# Altium footprint library Phone.PcbLib: 21 footprints (part 1 of 2)
Each footprint in its own frame and in the unit in brackets; x right, y up, seen from the top. Pads: shape width x height; smd on the part's side, far side on the other; paste and mask are expansions set on the pad; w line width, h text height; cw(c..) or ccw(c..) is an arc to the next point about the centre after c.
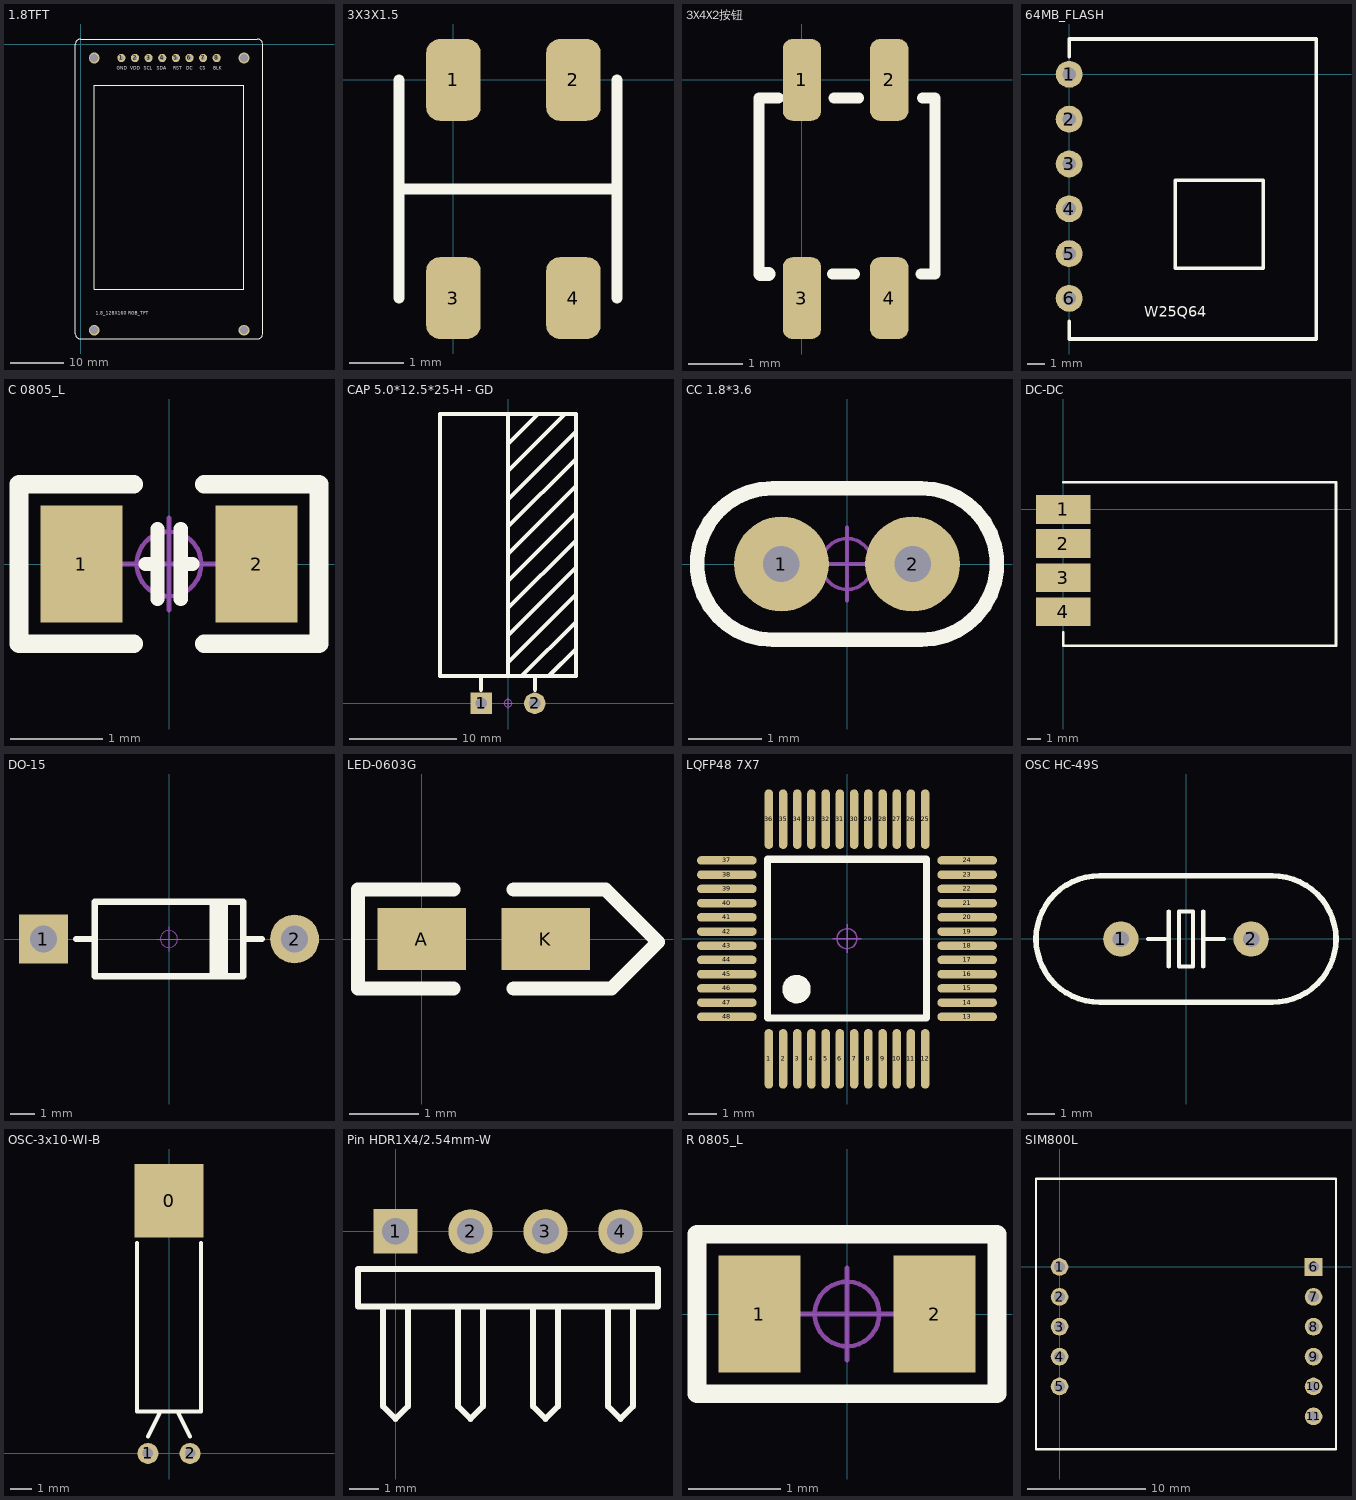
[diagram p0: the footprints below, top view; thin cyan lines are the x and y axes]

## 1.8TFT [mil]
height 43.31
pads (8):
  round 60 hole 30: 1(300,-100) 2(400,-100) 3(500,-100) 4(600,-100) 5(700,-100) 6(800,-100) 7(900,-100) 8(1000,-100)
via 1200,-2100 diameter 78.74 hole 59.06
via 100,-2100 diameter 78.74 hole 59.06
via 1200,-100 diameter 78.74 hole 59.06
via 100,-100 diameter 78.74 hole 59.06
Top Overlay:
  lines w7.87: -39.37,-2125.98 ccw(c0,-2125.98) 0,-2165.35 1299.21,-2165.35 ccw(c1299.21,-2125.98) 1338.58,-2125.98 1338.58,0 ccw(c1299.21,0) 1299.21,39.37 0,39.37 ccw(c0,0) -39.37,0 -39.37,-2125.98 ; 100,-1800 100,-300 1200,-300 1200,-1800 100,-1800
  text "GND" at 265.91,-186.85 h23.62
  text "VDD" at 364.02,-186.85 h23.62
  text "SCL" at 462.76,-186.85 h23.62
  text "SDA" at 561.18,-186.85 h23.62
  text "RST" at 679.29,-186.85 h23.62
  text "DC" at 777.72,-186.85 h23.62
  text "CS" at 876.14,-186.85 h23.62
  text "BLK" at 974.57,-186.85 h23.62
  text "1.8_128X160 RGB_TFT" at 110,-1986.06 h23.62

## 3X3X1.5 [mm]
height 1.1
pads (4):
  rrect50% 1x1.5 smd: 1(0,0) 2(2.2,0) 3(0,-4) 4(2.2,-4)
Top Overlay:
  lines w0.2: -1,-4 -1,0 ; -1,-2 3,-2 ; 3,-4 3,0

## 3X4X2按钮 [mm]
height 1.1
pads (4):
  rrect50% 0.7x1.5 smd: 1(0,0) 2(1.6,0) 3(0,-4) 4(1.6,-4)
Top Overlay:
  lines w0.2: -0.711,-3.556 -0.787,-3.556 -0.787,-0.33 -0.432,-0.33 ; 0.559,-3.556 0.965,-3.556 ; 0.584,-0.33 1.041,-0.33 ; 2.184,-3.556 2.438,-3.556 2.438,-0.33 2.21,-0.33
  lines w0.254: -0.762,-3.556 -0.61,-3.556

## 64MB_FLASH [mil]
height 43.31
pads (6):
  round 60 hole 30: 1(0,0) 2(0,-100) 3(0,-200) 4(0,-300) 5(0,-400) 6(0,-500)
Top Overlay:
  lines w7.87: 0,-551.18 0,-590.55 551.18,-590.55 551.18,-551.18 551.18,78.74 0,78.74 0,39.37 ; 236.22,-433.07 433.07,-433.07 433.07,-236.22 236.22,-236.22 236.22,-433.07
  text "W25Q64" at 167.48,-541.18 h23.62

## C 0805_L [mil] "无极性贴片电容"
height 19.68
pads (2):
  rect 35x50 smd: 1(-37.4,0) 2(37.4,0)
Top Overlay:
  lines w6: -10,0 -5,0 ; -5,-15 -5,15 ; 5,-15 5,15 ; 5,0 10,0
  lines w8: -15,-34 -64,-34 -64,34 -15,34 ; 15,-34 64,-34 64,34 15,34
Mechanical 15:
  circle w1.97: c0,0 r13.78
  circle w1.97: c0,0 r13.78
  lines w1.97: -19.68,0 19.68,0 -19.68,0 ; 0,-19.68 0,19.68 0,-19.68
3D body "C 0805.STEP": height 20.08, standoff -0.39, extent -39.37,-24.02 39.37,24.02

## CAP 5.0*12.5*25-H - GD [mm] "脚距5mm直径12.5mm高度25mm"
pads (2):
  rect 2x2 hole 1.1: 1(-2.5,0)
  round 2 hole 1.1: 2(2.5,0)
Top Overlay:
  lines w0.381: -2.54,1.27 -2.54,2.54 ; 0,2.54 0,27.051 ; 0,3.81 6.35,10.16 ; 0,6.35 6.35,12.7 ; 0,8.89 6.35,15.24 ; 0,11.43 6.35,17.78 ; 0,13.97 6.35,20.32 ; 0,16.51 6.35,22.86 ; 0,19.05 6.35,25.4 ; 0,21.717 5.334,27.051 ; 0,24.257 2.794,27.051 ; 1.27,2.54 6.35,7.62 ; 2.54,1.27 2.54,2.54 ; 3.81,2.54 6.35,5.08 ; -6.35,2.54 -6.35,27.051 6.35,27.051 6.35,2.54 -6.35,2.54
Mechanical 15:
  circle w0.05: c0,0 r0.35
  lines w0.05: -0.5,0 0.5,0 ; 0,-0.5 0,0.5
3D body "CAP 5X12.5X25-H.STEP": height 12.52, standoff -3.48, extent -6.236,-0.3 6.26,26.91

## CC 1.8*3.6 [mm] "脚距1.8mm直径3.6mm"
height 1.1
pads (2):
  round 1.3 hole 0.5: 1(-0.9,0) 2(0.9,0)
Top Overlay:
  lines w0.2: -1.016,-1.041 cw(c-1.016,0) -1.016,1.041 1.016,1.041 cw(c1.016,0) 1.016,-1.041 -1.016,-1.041
Mechanical 15:
  circle w0.05: c0,0 r0.35
  lines w0.05: -0.5,0 0.5,0 ; 0,-0.5 0,0.5
3D body "CC 1.8X3.6.STEP": height 3.6, standoff -3.5, extent -1.8,-0.798 1.8,0.796

## DC-DC [mm]
height 1.1
pads (4):
  rect 4x2.1 smd: 1(0,0) 2(0,-2.5) 3(0,-5) 4(0,-7.5)
Top Overlay:
  lines w0.2: 0,-9 0,-10 20,-10 20,2 0,2

## DO-15 [mm] "3.3*10.3mm(直径，脚距）"
height 1.1
pads (2):
  rect 2x2 hole 1.1: 1(-5.15,0)
  round 2 hole 1.1: 2(5.15,0)
Top Overlay:
  lines w0.254: -3.81,0 -3.048,0 ; 1.778,-1.524 1.778,1.524 ; 2.032,-1.524 2.032,1.524 ; 2.286,-1.524 2.286,1.524 ; 3.048,0 3.81,0 ; -3.048,-1.524 3.048,-1.524 3.048,1.524 -3.048,1.524 -3.048,-1.524
Mechanical 15:
  circle w0.05: c0,0 r0.35
  lines w0.05: -0.5,0 0.5,0 ; 0,-0.5 0,0.5
3D body "DO-15.STEP": height 3.35, standoff -3.45, extent -5.55,-1.639 5.55,1.639

## LED-0603G [mil]
height 43.31
pads (2):
  rect 50x35 smd: A(0,0.26) K(70,0.26)
Top Overlay:
  lines w8: 18,-27.74 -36,-27.74 -36,-25.74 -36,28.26 -35,28.26 18,28.26 ; 52,-27.74 107.26,-27.74 133.5,-1.5 103.75,28.26 52,28.26
3D body "17.STEP": height 23.82, standoff -0.04, extent 3.5,-15 66.5,16.58

## LQFP48 7X7 [mm]
height 1.1
pads (48):
  oval 0.3x2.1 smd: 1(-2.75,-4.227) 2(-2.25,-4.227) 3(-1.75,-4.227) 4(-1.25,-4.227) 5(-0.75,-4.227) 6(-0.25,-4.227) 7(0.25,-4.227) 8(0.75,-4.227) 9(1.25,-4.227) 10(1.75,-4.227) 11(2.25,-4.227) 12(2.75,-4.227) 25(2.75,4.202) 26(2.25,4.202) 27(1.75,4.202) 28(1.25,4.202) 29(0.75,4.202) 30(0.25,4.202) 31(-0.25,4.202) 32(-0.75,4.202) 33(-1.25,4.202) 34(-1.75,4.202) 35(-2.25,4.202) 36(-2.75,4.202)
  oval 2.1x0.3 smd: 13(4.227,-2.75) 14(4.227,-2.25) 15(4.227,-1.75) 16(4.227,-1.25) 17(4.227,-0.75) 18(4.227,-0.25) 19(4.227,0.25) 20(4.227,0.75) 21(4.227,1.25) 22(4.227,1.75) 23(4.227,2.25) 24(4.227,2.75) 37(-4.227,2.75) 38(-4.227,2.25) 39(-4.227,1.75) 40(-4.227,1.25) 41(-4.227,0.75) 42(-4.227,0.25) 43(-4.227,-0.25) 44(-4.227,-0.75) 45(-4.227,-1.25) 46(-4.227,-1.75) 47(-4.227,-2.25) 48(-4.227,-2.75)
Top Overlay:
  circle w0.5: c-1.778,-1.778 r0.25
  lines w0.254: -2.794,-2.794 -2.794,2.794 2.794,2.794 2.794,-2.794 -2.794,-2.794
Mechanical 15:
  circle w0.05: c0,0 r0.35
  lines w0.05: -0.5,0 0.5,0 ; 0,-0.5 0,0.5
3D body "LQFP48 7X7.STEP": height 1.45, standoff 0, extent -4.51,-4.503 4.496,4.503

## OSC HC-49S [mm]
height 1.1
pads (2):
  round 1.3 hole 0.6: 1(-2.4,0) 2(2.4,0)
Top Overlay:
  lines w0.152: -1.397,0 -0.635,0 ; -0.635,-1.016 -0.635,1.016 ; 0.635,-1.016 0.635,1.016 ; 0.635,0 1.397,0 ; -0.254,-1.016 0.254,-1.016 0.254,1.016 -0.254,1.016 -0.254,-1.016
  lines w0.203: -3.175,2.325 ccw(c-3.2,0) -3.173,-2.325 3.175,-2.325 ccw(c3.2,0) 3.173,2.325 -3.175,2.325
3D body "OSC HC-49S.STEP": height 4.13, standoff -3.45, extent -5.525,-2.286 5.525,2.364

## OSC-3x10-WI-B [mm]
height 1.1
pads (3):
  rect 3.3x3.5 smd: 0(0,12)
  round 1 hole 0.5: 1(-1,0) 2(1,0)
Top Overlay:
  lines w0.2: -1.524,10 -1.524,2 1.524,2 1.524,10 ; -1,0.8 -0.4,2 ; 0.4,2 1,0.8
3D body "OSC-3x10-WI-B.STEP": height 3.03, standoff -2.6, extent -1.5,-0.127 1.5,12.052

## Pin HDR1X4/2.54mm-W [mm] "Connector; Header; 4 Position; Right Angle"
height 1.1
pads (4):
  rect 1.5x1.5 hole 0.9: 1(0,0)
  round 1.5 hole 0.9: 2(2.54,0) 3(5.08,0) 4(7.62,0)
Top Overlay:
  lines w0.2: -0.423,-2.54 -0.423,-5.927 0,-6.35 0.423,-5.927 0.423,-2.54 ; 2.117,-2.54 2.117,-5.927 2.54,-6.35 2.963,-5.927 2.963,-2.54 ; 4.657,-2.54 4.657,-5.927 5.08,-6.35 5.503,-5.927 5.503,-2.54 ; 7.197,-2.54 7.197,-5.927 7.62,-6.35 8.043,-5.927 8.043,-2.54 ; -1.27,-2.54 -1.27,-1.27 8.89,-1.27 8.89,-2.54 -1.27,-2.54
3D body: height 2.54, standoff -1, extent -1.27,-10.001 8.89,0.349

## R 0805_L [mil] "1/8W贴片电阻"
height 43.31
pads (2):
  rect 35x50 smd: 1(-37.4,0) 2(37.4,0)
Top Overlay:
  lines w8: -64,-34 -64,34 -15,34 64,34 64,-34 -15,-34 -64,-34
Mechanical 15:
  circle w1.97: c0,0 r13.78
  lines w1.97: -19.68,0 19.68,0 ; 0,-19.68 0,19.68
3D body "R 0805.STEP": height 19.72, standoff -0.24, extent -39.37,-24.6 39.37,24.61

## SIM800L [mm]
height 1.1
pads (11):
  round 1.5 hole 0.9: 1(0,0) 2(0,-2.54) 3(0,-5.08) 4(0,-7.62) 5(0,-10.16) 7(21.59,-2.54) 8(21.59,-5.08) 9(21.59,-7.62) 10(21.59,-10.16) 11(21.59,-12.7)
  rect 1.5x1.5 hole 0.9: 6(21.59,0)
Top Overlay:
  lines w0.2: -2,-15.5 23.5,-15.5 23.5,7.5 -2,7.5 -2,-15.5
Bottom Overlay:
  lines w0.1: -1.27,1.626 1.27,1.626
  lines w0.2: -1.27,1.626 -1.27,-11.43 1.27,-11.43 1.27,1.626 ; 20.32,-13.97 22.86,-13.97 22.86,1.27 20.32,1.27 20.32,-13.97